# EAGLE library part JST-06 (library con-jst)
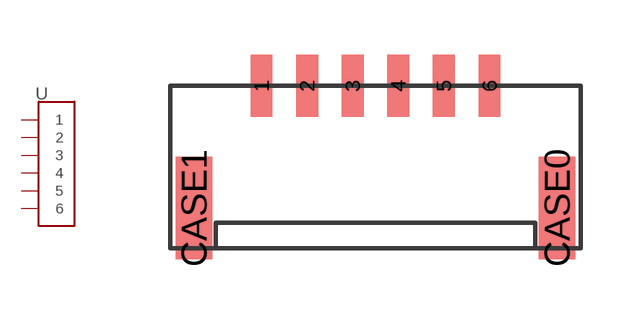
[diagram p0: symbol with the pads of GH-06-V; footprint GH-06-V]

Designator prefix -

## JST-06  [GH-06-V]
1  1
2  2
3  3
4  4
5  5
6  6

## Footprint GH-06-V (pad centres in mm)
smd 0.6 x 1.7: 1 -3.125,2.5; 2 -1.875,2.5; 3 -0.625,2.5; 4 0.625,2.5; 5 1.875,2.5; 6 3.125,2.5
smd 1 x 2.8: CASE0 4.975,-0.85; CASE1 -4.975,-0.85